# Altium footprint library FootprintsStd.PcbLib: 32 footprints (part 2 of 2)
Each footprint in its own frame and in the unit in brackets; x right, y up, seen from the top. Pads: shape width x height; smd on the part's side, far side on the other; paste and mask are expansions set on the pad; w line width, h text height; cw(c..) or ccw(c..) is an arc to the next point about the centre after c.
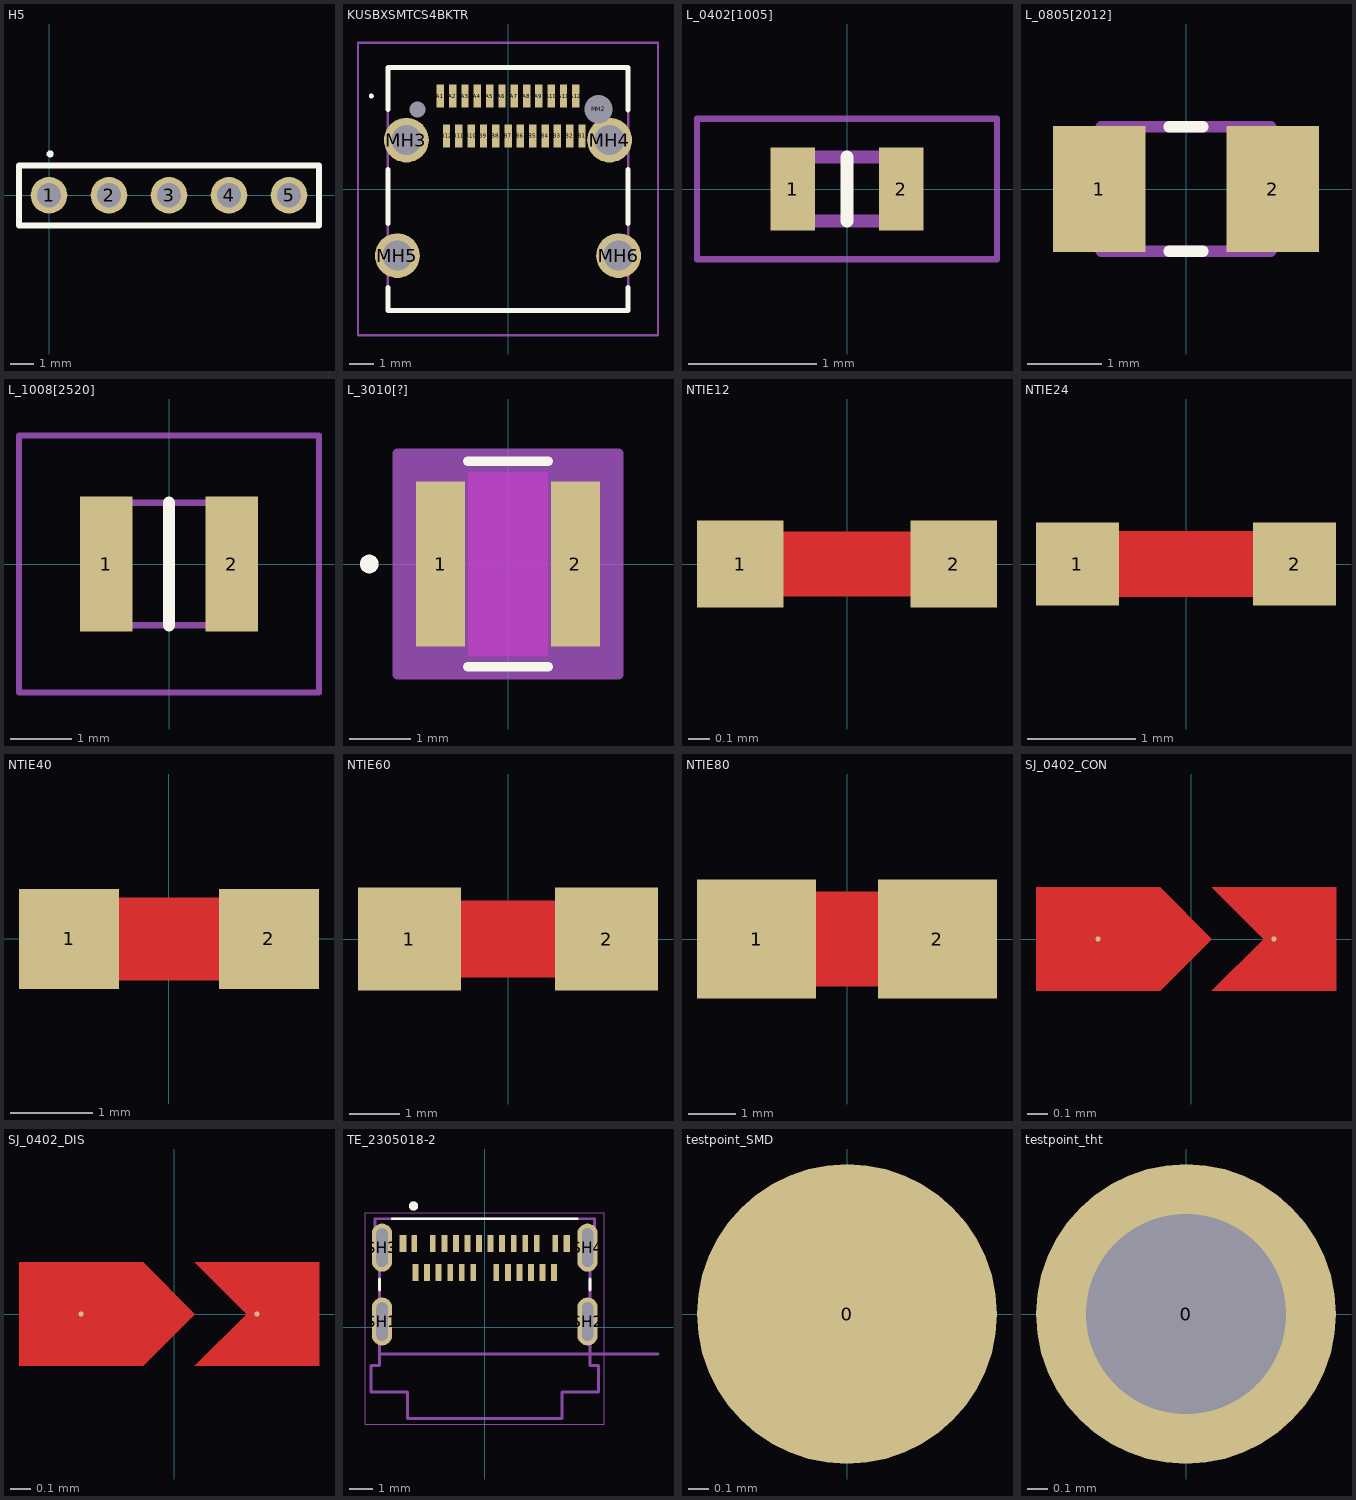
[diagram p1: the footprints below, top view; thin cyan lines are the x and y axes]

## H5 [mm] "Header 5-Pin"
pads (5):
  round 1.55 hole 1.02: 1(0,0) 2(2.54,0) 3(5.08,0) 4(7.62,0) 5(10.16,0)
Top Overlay:
  circle w0.2: c0.05,1.75 r0.05
  lines w0.254: -1.27,-1.27 -1.27,1.27 11.43,1.27 11.43,-1.27 -1.27,-1.27

## KUSBXSMTCS4BKTR [mm]
pads (30):
  rect 0.3x0.94 smd: A1(-2.745,3.775) A2(-2.245,3.775) A3(-1.745,3.775) A4(-1.245,3.775) A5(-0.745,3.775) A6(-0.245,3.775) A7(0.255,3.775) A8(0.755,3.775) A9(1.255,3.775) A10(1.755,3.775) A11(2.255,3.775) A12(2.755,3.775) B1(3.005,2.155) B2(2.505,2.155) B3(2.005,2.155) B4(1.505,2.155) B5(1.005,2.155) B6(0.505,2.155) B7(0.005,2.155) B8(-0.495,2.155) B9(-0.995,2.155) B10(-1.495,2.155) B11(-1.995,2.155) B12(-2.495,2.155)
  round 0.325 hole 0.65 unplated: MH1(-3.675,3.235)
  round 0.575 hole 1.15 unplated: MH2(3.675,3.235)
  round 1.815 hole 1.21: MH3(-4.125,1.985) MH4(4.125,1.985) MH5(-4.49,-2.705) MH6(4.49,-2.705)
Top Overlay:
  lines w0.1: -5.6,3.775 cw(c-5.55,3.775) -5.5,3.775 cw(c-5.55,3.775) -5.6,3.775
  lines w0.2: -4.875,-4 -4.875,-4.935 4.875,-4.935 4.875,-4 ; -4.875,-1.4 -4.875,0.8 ; -4.875,3.235 -4.875,4.935 4.875,4.935 4.875,3.2 ; 4.875,-1.4 4.875,0.8
Mechanical 13:
  lines w0.1: -4.875,-4.935 4.875,-4.935 4.875,4.935 -4.875,4.935 -4.875,-4.935
Mechanical 15:
  lines w0.1: -6.09,-5.935 6.09,-5.935 6.09,5.935 -6.09,5.935 -6.09,-5.935
3D body "KUSBX-SMT-CS-4-BK-TR.stp": height 3.63, standoff -0.78, extent -4.572,-6.22 4.468,6.22

## L_0402[1005] [mm]
pads (2):
  rect 0.35x0.65 smd: 1(-0.425,0) 2(0.425,0)
Top Overlay:
  lines w0.1: 0,-0.25 0,0.25
Mechanical 13:
  lines w0.1: -0.5,-0.25 -0.5,0.25 0.5,0.25 0.5,-0.25 -0.5,-0.25
Mechanical 15:
  lines w0.05: -1.175,-0.55 -1.175,0.55 1.175,0.55 1.175,-0.55 -1.175,-0.55
3D body "LQG15HH1N5S02D.stp": height 0.55, standoff 0, extent -0.5,-0.25 0.5,0.25

## L_0805[2012] [mil]
pads (2):
  rect 49x67 smd: 1(-46,0) 2(46,0)
Top Overlay:
  lines w6: -9,-33 9,-33 ; -9,33 9,33
Mechanical 13:
  lines w6: -45,-33 45,-33 45,33 -45,33 -45,-33
3D body "B82498F3331J.stp": height 55.51, standoff 0.2, extent -45.28,-33.46 45.28,33.46

## L_1008[2520] [mm]
pads (2):
  rect 0.85x2.2 smd: 1(-1.025,0) 2(1.025,0)
Top Overlay:
  lines w0.2: 0,-1 0,1
Mechanical 13:
  lines w0.1: -1.25,-1 1.25,-1 1.25,1 -1.25,1 -1.25,-1
Mechanical 15:
  lines w0.1: -2.45,-2.1 2.45,-2.1 2.45,2.1 -2.45,2.1 -2.45,-2.1
3D body "DFE252012PD-R47M=P2.stp": height 1.2, standoff 0, extent -1.25,-1 1.25,1

## L_3010[?] [mil]
pads (2):
  rect 31.5x106 smd paste+0 mask+0: 1(-43.25,0) 2(43.25,0)
Top Layer keep-out:
  region: -25.5,-59 -25.5,59 25.5,59 25.5,-59
Top Overlay:
  circle w6: c-89,0 r3
  lines w6: -25.88,-66 25.88,-66 ; -25.88,66 25.88,66
Mechanical 13:
  circle w0: c-58,0 r3
  lines w1: -61,-61 -61,61 61,61 61,-61 -61,-61
Mechanical 15:
  region: -71,-63 -71,63 -71,71 71,71 71,63 71,-63 71,-71 -71,-71
  lines w6: -71,-71 71,-71 71,-63 71,63 71,71 -71,71 -71,63 -71,-63 -71,-71
3D body "IND_TAIYO_NRH3010_TAY.step": height 39.02, standoff 0, extent -60.98,-61.1 60.98,61.1

## NTIE12 [mil] "NTIE 12mil"
pads (2):
  rect 16x16 smd: 1(-19.68,0) 2(19.68,0)
Top Layer:
  lines w12: -19.68,0 19.68,0

## NTIE24 [mil] "NTIE 24 mil"
pads (2):
  rect 30x30 smd: 1(-39.37,0) 2(39.37,0)
Top Layer:
  lines w24: -27.56,0 27.56,0

## NTIE40 [mil] "NTIE 40 mil"
pads (2):
  rect 48x48 smd: 1(-48,0) 2(48,0)
Top Layer:
  lines w40: -48,0 48,0

## NTIE60 [mil] "NTIE 00 mil"
pads (2):
  rect 80x80 smd: 1(-76.77,0) 2(76.77,0)
Top Layer:
  lines w60: -76.77,0 76.77,0

## NTIE80 [mm] "NTIE"
pads (2):
  rect 2.54x2.54 smd: 1(-1.925,0) 2(1.925,0)
Top Layer:
  lines w2.032: -1.925,0 1.925,0

## SJ_0402_CON [mil] "Solder Jumper, 0402, Connected"
pads (2):
  round 1 smd mask+0: 1(-17.72,0) 2(15.75,0)
Top Layer:
  region: 3.94,9.84 13.78,0 3.94,-9.84 27.56,-9.84 27.56,9.84
  region: -5.91,9.84 3.94,0 -5.91,-9.84 -29.53,-9.84 -29.53,9.84
Top Paste:
  rectangle: -5.91,-9.84 14.76,9.84

## SJ_0402_DIS [mil] "Solder Jumper, 0402, Disconnected"
pads (2):
  round 1 smd mask+0: 1(-17.72,0) 2(15.75,0)
Top Layer:
  region: 3.94,9.84 13.78,0 3.94,-9.84 27.56,-9.84 27.56,9.84
  region: -5.91,9.84 3.94,0 -5.91,-9.84 -29.53,-9.84 -29.53,9.84

## TE_2305018-2 [mm]
height 3.53
pads (30):
  rect 0.25x0.75 smd: A1(-3.05,3.625) A2(-2.25,3.625) A3(-1.75,3.625) A4(-1.25,3.625) A5(-0.75,3.625) A6(-0.25,3.625) A7(0.25,3.625) A8(0.75,3.625) A9(1.25,3.625) A10(1.75,3.625) A11(2.25,3.625) A12(3.05,3.625) B1(3,2.375) B2(2.5,2.375) B3(2,2.375) B4(1.5,2.375) B5(1,2.375) B6(0.5,2.375) B7(-0.5,2.375) B8(-1,2.375) B9(-1.5,2.375) B10(-2,2.375) B11(-2.5,2.375) B12(-3,2.375)
  rect 0.3x0.75 smd: G1(-3.55,3.625) G2(3.55,3.625)
  oval 0.88x2.08 hole 0.48 slot 1.68 at 90 deg: SH1(-4.45,0.25) SH2(4.45,0.25) SH3(-4.45,3.45) SH4(4.45,3.45)
Top Overlay:
  circle w0.2: c-3.085,5.25 r0.1
  lines w0.127: -4.55,1.61 -4.55,2.09 ; -4,4.7 4,4.7 ; 4.55,1.61 4.55,2.09
Mechanical 13:
  circle w0.2: c-3.085,5.25 r0.1
  lines w0.127: 7.5,-1.15 -4.55,-1.15 ; -4.55,-1.15 -4.55,-1.65 -4.925,-1.65 -4.925,-2.8 -3.345,-2.8 -3.345,-3.95 3.344,-3.95 3.344,-2.8 4.925,-2.8 4.925,-1.65 4.55,-1.65 4.55,3.7 4.75,3.7 4.75,4.7 -4.75,4.7 -4.75,3.7 -4.55,3.7 -4.55,-1.15
  text "PCB EDGE" at 5.25,-1 h0.81
Mechanical 15:
  lines w0.05: -5.175,-4.2 -5.175,4.95 5.175,4.95 5.175,-4.2 -5.175,-4.2
3D body "step_temp.STEP": height 3.53, standoff -0.53, extent -4.92,-3.817 4.92,4.833

## testpoint_SMD [mm]
pads (1):
  round 1.5 smd: 0(0,0)

## testpoint_tht [mm]
pads (1):
  round 1.5 hole 1: 0(0,0)